# Altium footprint library sharing.PcbLib: 40 footprints (part 2 of 3)
Each footprint in its own frame and in the unit in brackets; x right, y up, seen from the top. Pads: shape width x height; smd on the part's side, far side on the other; paste and mask are expansions set on the pad; w line width, h text height; cw(c..) or ccw(c..) is an arc to the next point about the centre after c.
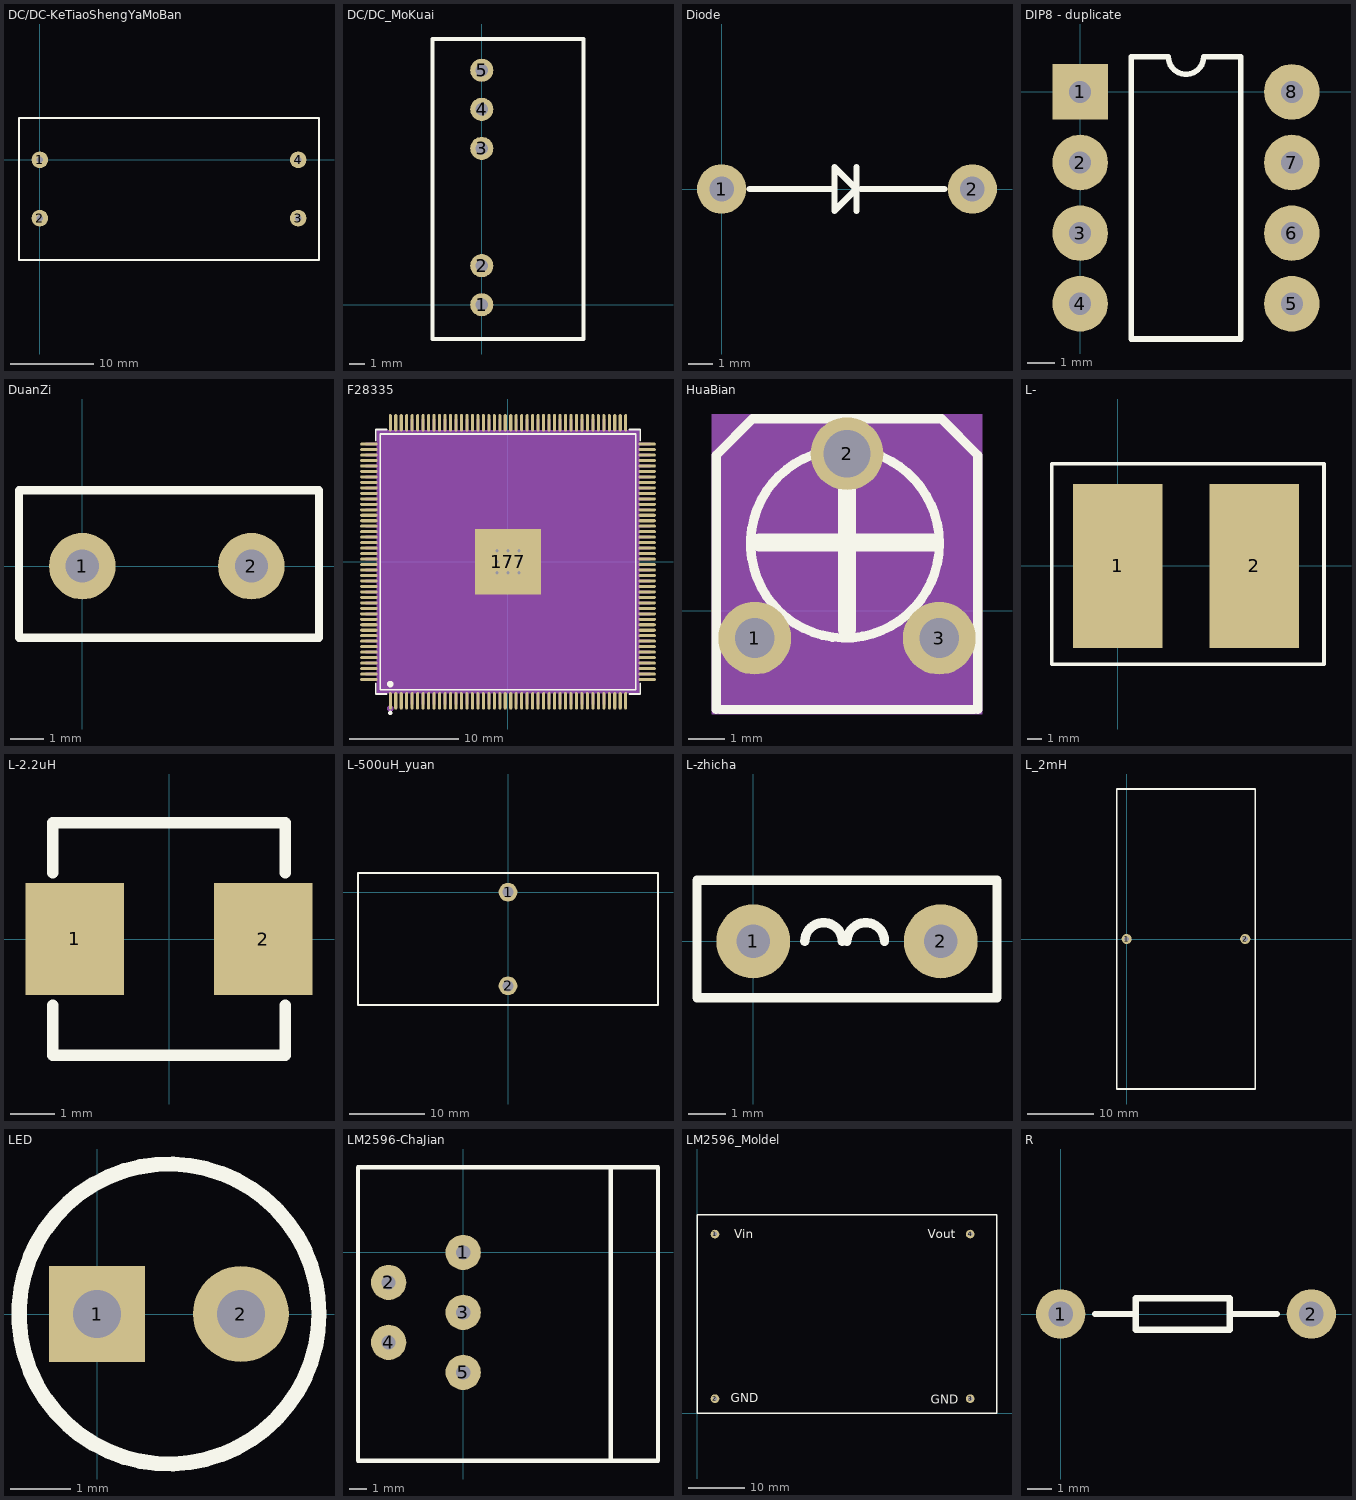
[diagram p1: the footprints below, top view; thin cyan lines are the x and y axes]

## DC/DC-KeTiaoShengYaMoBan [mm]
pads (4):
  round 2 hole 0.8: 1(0,0) 2(0,-7) 3(31,-7) 4(31,0)
Top Overlay:
  lines w0.254: -2.5,-12 -2.5,5 33.5,5 33.5,-12 33.435,-12 -2.5,-12

## DC/DC_MoKuai [mm]
pads (5):
  round 1.5 hole 0.8: 1(0,0) 2(0,2.54) 3(0,10.16) 4(0,12.7) 5(0,15.24)
Top Overlay:
  lines w0.254: -3.196,-2.228 6.604,-2.228 6.604,17.272 -3.196,17.272 -3.196,-2.228

## Diode [mm]
pads (2):
  round 2 hole 1: 1(0,0) 2(10.16,0)
Top Overlay:
  lines w0.254: 1.143,0 2.286,0 4.572,0 ; 5.461,-0.889 5.461,0.889 ; 5.651,0 8.001,0 9.017,0 ; 4.572,-0.889 4.572,0.889 5.461,0 4.572,-0.889

## DIP8 - duplicate [mm]
pads (8):
  rect 2x2 hole 0.8: 1(0,0)
  round 2 hole 0.8: 2(0,-2.54) 3(0,-5.08) 4(0,-7.62) 5(7.62,-7.62) 6(7.62,-5.08) 7(7.62,-2.54) 8(7.62,0)
Top Overlay:
  lines w0.2: 1.835,-8.89 1.835,1.27 3.175,1.27 ccw(c3.81,1.27) 4.445,1.27 5.785,1.27 5.785,-8.89 1.835,-8.89

## DuanZi [mm]
pads (2):
  round 2 hole 1 unplated: 1(0,0) 2(5.08,0)
Top Overlay:
  lines w0.254: -1.905,-2.159 -1.905,2.286 7.112,2.286 7.112,-2.159 -1.905,-2.159

## F28335 [mm]
pads (186):
  oval 0.28x1.596 smd: 1(-10.734,-12.716) 2(-10.234,-12.716) 3(-9.734,-12.716) 4(-9.234,-12.716) 5(-8.734,-12.716) 6(-8.234,-12.716) 7(-7.734,-12.716) 8(-7.234,-12.716) 9(-6.734,-12.716) 10(-6.234,-12.716) 11(-5.734,-12.716) 12(-5.234,-12.716) 13(-4.734,-12.716) 14(-4.234,-12.716) 15(-3.734,-12.716) 16(-3.234,-12.716) 17(-2.734,-12.716) 18(-2.234,-12.716) 19(-1.734,-12.716) 20(-1.234,-12.716) 21(-0.734,-12.716) 22(-0.234,-12.716) 23(0.266,-12.716) 24(0.766,-12.716) 25(1.266,-12.716) 26(1.766,-12.716) 27(2.266,-12.716) 28(2.766,-12.716) 29(3.266,-12.716) 30(3.766,-12.716) 31(4.266,-12.716) 32(4.766,-12.716) 33(5.266,-12.716) 34(5.766,-12.716) 35(6.266,-12.716) 36(6.766,-12.716) 37(7.266,-12.716) 38(7.766,-12.716) 39(8.266,-12.716) 40(8.766,-12.716) 41(9.266,-12.716) 42(9.766,-12.716) 43(10.266,-12.716) 44(10.766,-12.716) 89(10.766,12.684) 90(10.266,12.684) 91(9.766,12.684) 92(9.266,12.684) 93(8.766,12.684) 94(8.266,12.684) 95(7.766,12.684) 96(7.266,12.684) 97(6.766,12.684) 98(6.266,12.684) 99(5.766,12.684) 100(5.266,12.684) 101(4.766,12.684) 102(4.266,12.684) 103(3.766,12.684) 104(3.266,12.684) 105(2.766,12.684) 106(2.266,12.684) 107(1.766,12.684) 108(1.266,12.684) 109(0.766,12.684) 110(0.266,12.684) 111(-0.234,12.684) 112(-0.734,12.684) 113(-1.234,12.684) 114(-1.734,12.684) 115(-2.234,12.684) 116(-2.734,12.684) 117(-3.234,12.684) 118(-3.734,12.684) 119(-4.234,12.684) 120(-4.734,12.684) 121(-5.234,12.684) 122(-5.734,12.684) 123(-6.234,12.684) 124(-6.734,12.684) 125(-7.234,12.684) 126(-7.734,12.684) 127(-8.234,12.684) 128(-8.734,12.684) 129(-9.234,12.684) 130(-9.734,12.684) 131(-10.234,12.684) 132(-10.734,12.684)
  oval 1.596x0.28 smd: 45(12.716,-10.766) 46(12.716,-10.266) 47(12.716,-9.766) 48(12.716,-9.266) 49(12.716,-8.766) 50(12.716,-8.266) 51(12.716,-7.766) 52(12.716,-7.266) 53(12.716,-6.766) 54(12.716,-6.266) 55(12.716,-5.766) 56(12.716,-5.266) 57(12.716,-4.766) 58(12.716,-4.266) 59(12.716,-3.766) 60(12.716,-3.266) 61(12.716,-2.766) 62(12.716,-2.266) 63(12.716,-1.766) 64(12.716,-1.266) 65(12.716,-0.766) 66(12.716,-0.266) 67(12.716,0.234) 68(12.716,0.734) 69(12.716,1.234) 70(12.716,1.734) 71(12.716,2.234) 72(12.716,2.734) 73(12.716,3.234) 74(12.716,3.734) 75(12.716,4.234) 76(12.716,4.734) 77(12.716,5.234) 78(12.716,5.734) 79(12.716,6.234) 80(12.716,6.734) 81(12.716,7.234) 82(12.716,7.734) 83(12.716,8.234) 84(12.716,8.734) 85(12.716,9.234) 86(12.716,9.734) 87(12.716,10.234) 88(12.716,10.734) 133(-12.684,10.734) 134(-12.684,10.234) 135(-12.684,9.734) 136(-12.684,9.234) 137(-12.684,8.734) 138(-12.684,8.234) 139(-12.684,7.734) 140(-12.684,7.234) 141(-12.684,6.734) 142(-12.684,6.234) 143(-12.684,5.734) 144(-12.684,5.234) 145(-12.684,4.734) 146(-12.684,4.234) 147(-12.684,3.734) 148(-12.684,3.234) 149(-12.684,2.734) 150(-12.684,2.234) 151(-12.684,1.734) 152(-12.684,1.234) 153(-12.684,0.734) 154(-12.684,0.234) 155(-12.684,-0.266) 156(-12.684,-0.766) 157(-12.684,-1.266) 158(-12.684,-1.766) 159(-12.684,-2.266) 160(-12.684,-2.766) 161(-12.684,-3.266) 162(-12.684,-3.766) 163(-12.684,-4.266) 164(-12.684,-4.766) 165(-12.684,-5.266) 166(-12.684,-5.766) 167(-12.684,-6.266) 168(-12.684,-6.766) 169(-12.684,-7.266) 170(-12.684,-7.766) 171(-12.684,-8.266) 172(-12.684,-8.766) 173(-12.684,-9.266) 174(-12.684,-9.766) 175(-12.684,-10.266) 176(-12.684,-10.766)
  round 0.6 hole 0.3: 177(-0.984,-1.016) 177(-0.984,-0.016) 177(-0.984,0.984) 177(0.016,-1.016) 177(0.016,-0.016) 177(0.016,0.984) 177(1.016,-1.016) 177(1.016,-0.016) 177(1.016,0.984)
  rect 6x6 smd: 177(0.016,-0.016)
Top Overlay:
  circle w0.2: c-10.734,-13.816 r0.1
  circle w0.3: c-10.734,-11.187 r0.15
  lines w0.152: -12.06,-11.096 -12.06,-12.092 -11.064,-12.092 ; -12.06,11.064 -12.06,12.06 -11.064,12.06 ; 11.096,-12.092 12.092,-12.092 12.092,-11.096 ; 11.096,12.06 12.092,12.06 12.092,11.064 ; -11.655,-11.687 -11.655,11.655 11.687,11.655 11.687,-11.687 -11.655,-11.687
Mechanical 4:
  region: -11.984,-12.016 -11.984,11.984 12.016,11.984 12.016,-12.016
Mechanical 5:
  drawing of 353 lines, arcs and shapes, not listed
Mechanical 15:
  circle w0.3: c-10.734,-13.416 r0.15

## HuaBian [mm]
pads (3):
  round 2 hole 1.1: 1(-9.779,-0.762) 3(-4.699,-0.762)
  round 2 hole 1.3: 2(-7.239,4.318)
Top Overlay:
  circle w0.254: c-7.294,1.844 r2.6
  lines w0.254: -10.839,-2.722 -10.839,1.278 ; -10.838,1.278 -10.839,4.278 -9.839,5.278 -9.639,5.278 -7.239,5.278 -4.839,5.278 ; -10.739,-2.722 -7.239,-2.722 -3.739,-2.722 ; -5.039,5.278 -4.639,5.278 -3.639,4.278 -3.64,1.278 ; -3.639,-2.722 -3.639,1.278
  lines w0.5: -9.639,1.878 -4.839,1.878 ; -7.239,-0.522 -7.239,4.278
Mechanical 4:
  region: -10.966,5.411 -3.512,5.411 -3.512,-2.849 -10.966,-2.849
Mechanical 5:
  region: -5.699,0.238 -3.699,0.238 -3.699,-1.762 -5.699,-1.762
  region: -8.239,5.318 -6.239,5.318 -6.239,3.318 -8.239,3.318
  region: -10.779,0.238 -8.779,0.238 -8.779,-1.762 -10.779,-1.762

## L- [mm]
pads (2):
  rect 6x11 smd: 1(0,0) 2(9.144,0)
Top Overlay:
  lines w0.254: -4.445,-6.604 -4.445,6.858 13.843,6.858 13.843,-6.604 -4.445,-6.604

## L-2.2uH [mm]
pads (2):
  rect 2.2x2.5 smd: 1(-2.1,0) 2(2.1,0)
Top Overlay:
  lines w0.254: -2.6,-1.481 -2.6,-2.6 2.6,-2.6 2.6,-1.481 ; -2.6,1.481 -2.6,2.6 2.6,2.6 2.6,1.481

## L-500uH_yuan [mm]
pads (2):
  round 2.5 hole 1.5: 1(0,0) 2(0,-12.5)
Top Overlay:
  lines w0.254: -20,-15.04 20,-15.04 20,2.54 -20,2.54 -20,-15.04

## L-zhicha [mm]
pads (2):
  round 2 hole 0.9: 1(0,0) 2(5.08,0)
Top Overlay:
  lines w0.254: 1.397,0 cw(c1.905,0) 2.413,0 ; 2.54,0 cw(c3.048,0) 3.556,0 ; -1.524,-1.524 6.604,-1.524 6.604,1.651 -1.524,1.651 -1.524,-1.524

## L_2mH [mil]
pads (2):
  round 60 hole 30: 1(0,0) 2(700,0)
Top Overlay:
  lines w10: 759.06,885.83 759.06,-885.83 -59.06,-885.83 -59.06,885.83 759.41,885.83

## LED [mm]
pads (2):
  rect 1.6x1.6 hole 0.8 unplated: 1(0,0)
  round 1.6 hole 0.8 unplated: 2(2.4,0)
Top Overlay:
  circle w0.254: c1.2,0 r2.505

## LM2596-ChaJian [mm]
pads (5):
  round 2 hole 0.8: 1(0,0) 2(-4.23,-1.7) 3(0,-3.4) 4(-4.23,-5.1) 5(0,-6.8)
Top Overlay:
  lines w0.254: 8.382,-11.811 8.382,4.826 ; 8.382,4.826 11.049,4.826 11.049,-11.811 -5.969,-11.811 -5.969,4.826 8.382,4.826

## LM2596_Moldel [mil]
pads (4):
  round 60 hole 30: 1(125,1245) 2(125,100) 3(1900,100) 4(1900,1245)
Top Overlay:
  lines w10: 0,0 0,1377.95 2086.61,1377.95 2086.61,0 0,0
  text "Vout" at 1605,1215 h60
  text "GND" at 1625,65 h60
  text "GND" at 235,75 h60
  text "Vin" at 260,1215 h60

## R [mm]
pads (2):
  round 2 hole 1: 1(0,0) 2(10.16,0)
Top Overlay:
  lines w0.254: 1.397,0 3.048,0 ; 6.858,0 8.763,0 ; 3.048,-0.635 3.048,0.635 6.858,0.635 6.858,-0.635 3.048,-0.635